# EAGLE library part OMEGA2 (library omega2)
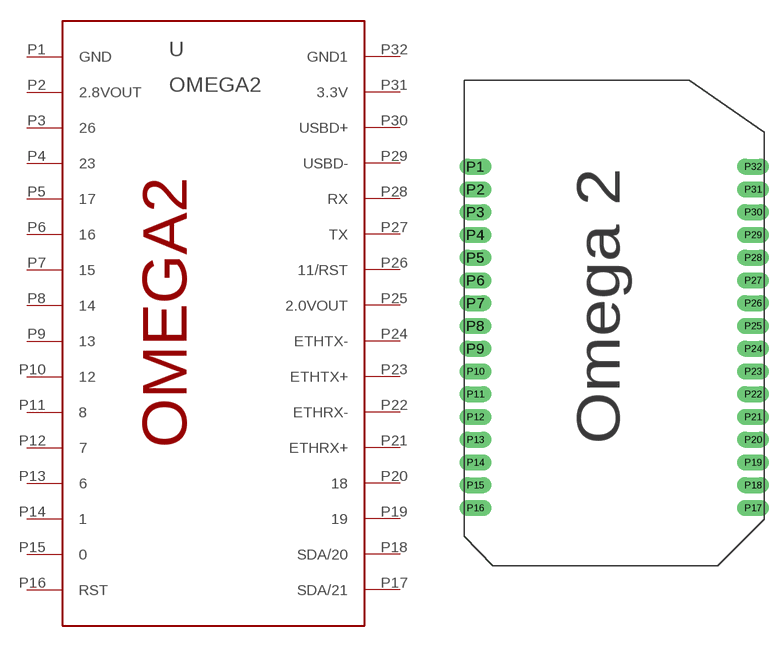
[diagram p0: symbol with the pads of OMEGA2; footprint OMEGA2]

Designator prefix -

## OMEGA2  [OMEGA2]
P1  GND
P2  2.8VOUT
P3  26
P4  23
P5  17
P6  16
P7  15
P8  14
P9  13
P10  12
P11  8
P12  7
P13  6
P14  1
P15  0
P16  RST
P17  SDA/21
P18  SDA/20
P19  19
P20  18
P21  ETHRX+
P22  ETHRX-
P23  ETHTX+
P24  ETHTX-
P25  2.0VOUT
P26  11/RST
P27  TX
P28  RX
P29  USBD-
P30  USBD+
P31  3.3V
P32  GND1

## Footprint OMEGA2 (pad centres in mm)
drill 0.8 pad 1.422 long: P1 1,35.1; P2 1,33.1; P3 1,31.1; P4 1,29.1; P5 1,27.1; P6 1,25.1; P7 1,23.1; P8 1,21.1; P9 1,19.1; P10 1,17.1; P11 1,15.1; P12 1,13.1; P13 1,11.1; P14 1,9.1; P15 1,7.1; P16 1,5.1; P17 25.4,5.1; P18 25.4,7.1; P19 25.4,9.1; P20 25.4,11.1; P21 25.4,13.1; P22 25.4,15.1; P23 25.4,17.1; P24 25.4,19.1; P25 25.4,21.1; P26 25.4,23.1; P27 25.4,25.1; P28 25.4,27.1; P29 25.4,29.1; P30 25.4,31.1; P31 25.4,33.1; P32 25.4,35.1